# Altium schematic symbol library phoenix-combicon.SchLib: 2 symbols
Pins are listed as number, name and electrical type; pins without a type are passive.

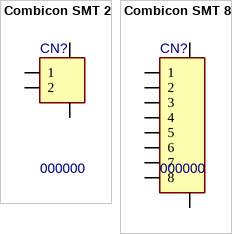
[diagram p0: symbols Combicon SMT 2 to Combicon SMT 8]

## Combicon SMT 2
designator CN?, comment 000000
Terminal Block, Header, 2-Pos; PN: 000000; Package: *; Value: *; ExtraInfo: *
footprint 284541-6 (6 Pos, Terminal Block, Header Assembly, 90dg, 3.81mm Pitch, Threaded Flange)
signal-integrity model Connector
footprint 1778764 (2pos, 2.5mm Wire to Board Connector, Header, SMT, Right Angle)
pins: 1, 2, 3, 4

## Combicon SMT 8
designator CN?, comment 000000
Terminal Block, Header, 8-Pos; PN: 000000; Package: *; Value: *; ExtraInfo: *
footprint 284541-6 (6 Pos, Terminal Block, Header Assembly, 90dg, 3.81mm Pitch, Threaded Flange)
signal-integrity model Connector
footprint 1778829 (5pos, 2.54mm Wire to Board Connector, Header, SMT, Right Angle)
pins: 1, 2, 3, 4, 5, 6, 7, 8, 9, 10